# Altium integrated library LRTB_R48G.IntLib: 1 symbol
Pins are listed as number, name and electrical type; pins without a type are passive.

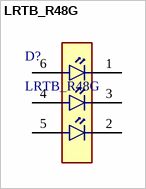
[diagram p0: symbol LRTB_R48G]

## LRTB_R48G
designator D?
RGB LED LRTB R48G
footprint LRTB_R48G
pins: 1 BLUE C, 2 GREEN C, 3 RED C, 4 RED A, 5 GREEN A, 6 BLUE A